# Altium footprint library FB_0402_1005.PcbLib: 1 footprints
Each footprint in its own frame and in the unit in brackets; x right, y up, seen from the top. Pads: shape width x height; smd on the part's side, far side on the other; paste and mask are expansions set on the pad; w line width, h text height; cw(c..) or ccw(c..) is an arc to the next point about the centre after c.
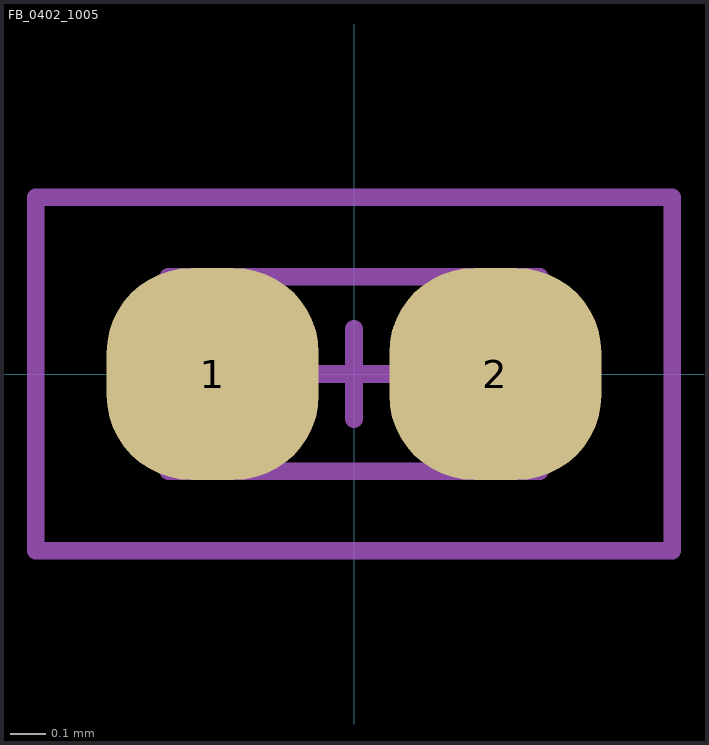
[diagram p0: the footprint, top view; thin cyan lines are the x and y axes]

## FB_0402_1005 [mm]
pads (2):
  rrect80% 0.6x0.6 smd mask+0.05: 1(-0.4,0) 2(0.4,0)
Assembly Top:
  lines w0.05: -0.525,-0.275 -0.525,0.275 0.525,0.275 0.525,-0.275 -0.525,-0.275
Courtyard Top:
  lines w0.05: -0.9,-0.5 0.9,-0.5 0.9,0.5 -0.9,0.5 -0.9,-0.5
  lines w0.051: -0.127,0 0.127,0 ; 0,-0.127 0,0.127
Mechanical 17:
  text "'.Designator'" at -0.384,-0.125 h0.25
Mechanical 19:
  text "'.Comment'" at -0.381,-0.127 h0.25
3D body "WE-CBF_0402_CBF (rev1).stp": height 0.5, standoff 0, extent -0.5,-0.25 0.5,0.25